# Altium integrated library F407VET6.IntLib: 9 symbols
Pins are listed as number, name and electrical type; pins without a type are passive.

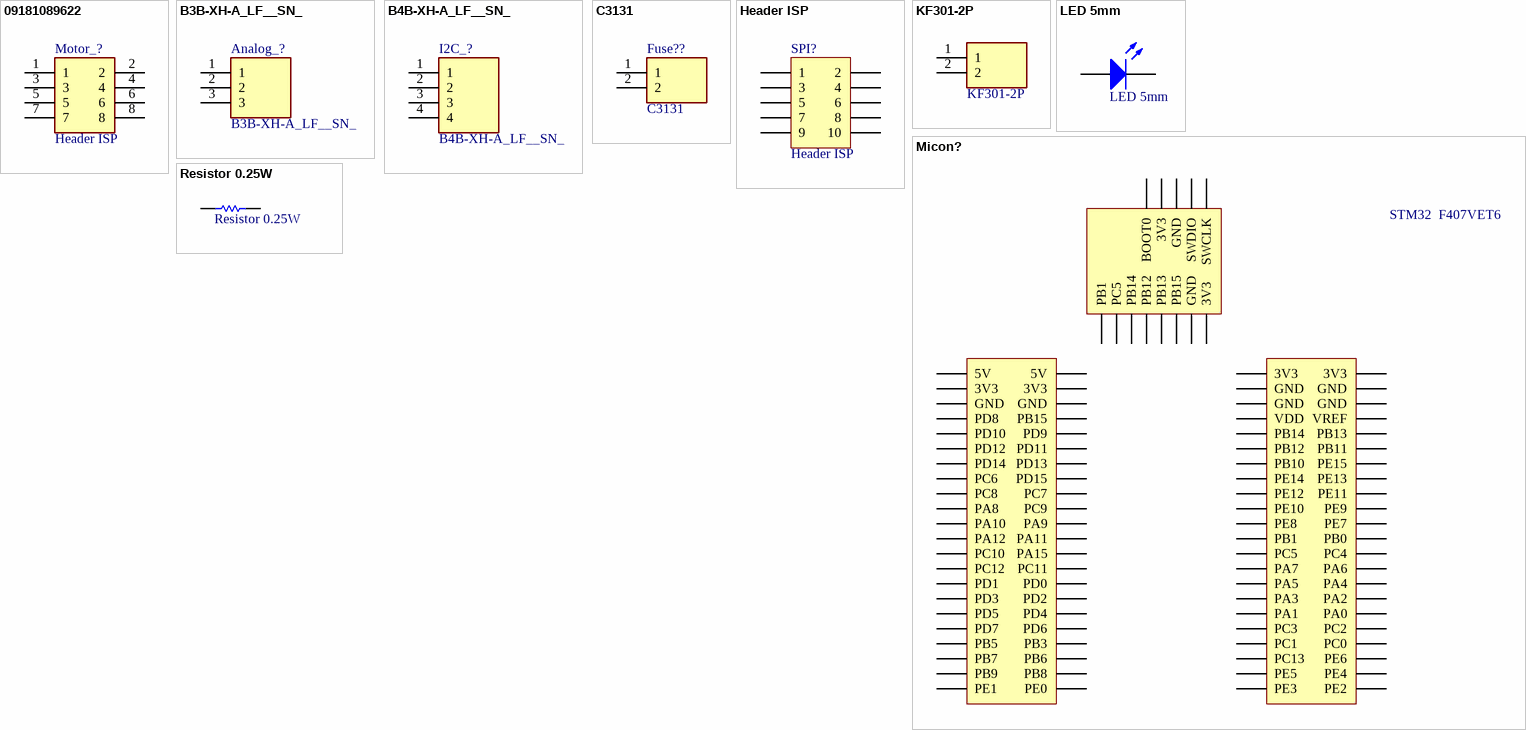
[diagram p0: symbols 09181089622 to Resistor 0.25W]

## 09181089622
designator Motor_?, comment Header ISP
Connector; Manufacturer_Name: HARTING; Manufacturer_Part_Number: 09181089622; Datasheet Link: http://uk.rs-online.com/web/p/products/6935182; Height: 5.5mm; Mouser Part Number: 617-09181089622; Mouser Price/Stock: https://www.mouser.co.uk/ProductDetail/HARTING/09181089622?qs=FeiuqfHlVTv2CjJEejdN9Q%3D%3D
footprint 09181089622
pins: 1, 2, 3, 4, 5, 6, 7, 8

## B3B-XH-A_LF__SN_
designator Analog_?
Connector; Manufacturer_Name: JST (JAPAN SOLDERLESS TERMINALS); Manufacturer_Part_Number: B3B-XH-A(LF)(SN); Datasheet Link: https://datasheet.lcsc.com/szlcsc/1812131720_JST-Sales-America-B3B-XH-A-LF-SN_C144394.pdf; Height: 7mm; Arrow Part Number: B3B-XH-A(LF)(SN); Arrow Price/Stock: https://www.arrow.com/en/products/b3b-xh-a-lf-sn/jst-manufacturing?region=europe
footprint B3BXHALFSN
pins: 1, 2, 3

## B4B-XH-A_LF__SN_
designator I2C_?
Connector; Manufacturer_Name: JST (JAPAN SOLDERLESS TERMINALS); Manufacturer_Part_Number: B4B-XH-A(LF)(SN); Datasheet Link: https://datasheet.lcsc.com/szlcsc/JST-Sales-America-B4B-XH-A-LF-SN_C144395.pdf; Height: 7mm; Arrow Part Number: B4B-XH-A(LF)(SN); Arrow Price/Stock: https://www.arrow.com/en/products/b4b-xh-a-lf-sn/jst-manufacturing
footprint B4BXHALFSN
pins: 1, 2, 3, 4

## C3131
designator Fuse??
Undefined or Miscellaneous; Manufacturer_Name: Xucheng Elec; Datasheet Link: https://datasheet.lcsc.com/szlcsc/XC-Elec-Shenzhen-5x20-BLX-Fuse-holder_C3131.pdf; Height: 10.5mm; Manufacturer_Part_Number: C3131
footprint C3131
pins: 1, 2

## Header ISP
designator SPI?
footprint Header ISP
pins: 1, 2, 3, 4, 5, 6, 7, 8, 9, 10

## KF301-2P
designator Power??
Connector; Manufacturer_Name: Handson Technology; Datasheet Link: http://www.handsontec.com/dataspecs/terminal%20block-5mm.pdf; Height: 10mm; Manufacturer_Part_Number: KF301-2P
footprint KF3012P
pins: 1, 2

## LED 5mm
designator led??
footprint LED 5mm
pins: 1 A, 2 K

## Micon?
designator *?, comment STM32  F407VET6
STM32F407VET6
footprint MICON (STM32F407VET6)
pins: 3V3, 3V3, 3V3, 3V3, 3V3, 3V3, 5V, 5V, BOOT0, GND, GND, GND, GND, GND, GND, GND, GND, PA0, PA1, PA2, PA3, PA4, PA5, PA6, PA7, PA8, PA9, PA10, PA11, PA12, PA15, PB0, PB1, PB1, PB3, PB5, PB6, PB7, PB8, PB9, PB10, PB11, PB12, PB12, PB13, PB13, PB14, PB14, PB15, PB15, PC0, PC1, PC2, PC3, PC4, PC5, PC5, PC6, PC7, PC8, PC9, PC10, PC11, PC12, PC13, PD0, PD1, PD2, PD3, PD4, PD5, PD6, PD7, PD8, PD9, PD10, PD11, PD12, PD13, PD14, PD15, PE0, PE1, PE2, PE3, PE4, PE5, PE6, PE7, PE8, PE9, PE10, PE11, PE12, PE13, PE14, PE15, SWCLK, SWDIO, VDD, VREF

## Resistor 0.25W
designator R??
footprint Resistor 0.25W
pins: 1, 2